# Altium footprint library QUTMS_JSTHeaderLibrary.PcbLib: 6 footprints
Each footprint in its own frame and in the unit in brackets; x right, y up, seen from the top. Pads: shape width x height; smd on the part's side, far side on the other; paste and mask are expansions set on the pad; w line width, h text height; cw(c..) or ccw(c..) is an arc to the next point about the centre after c.
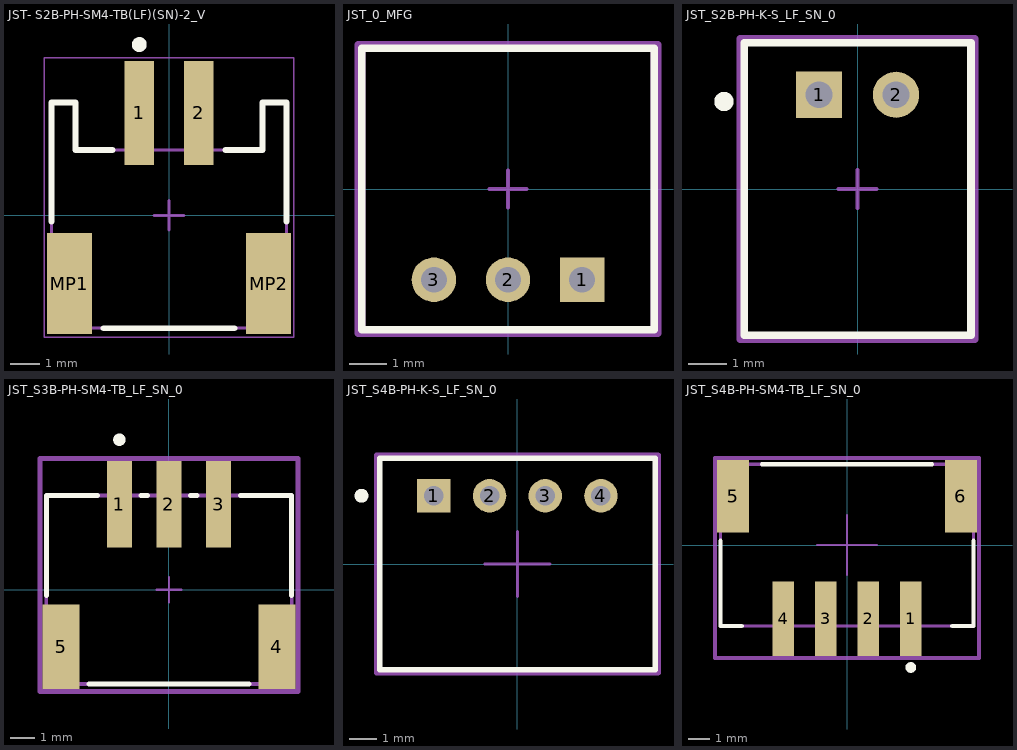
[diagram p0: the footprints below, top view; thin cyan lines are the x and y axes]

## JST- S2B-PH-SM4-TB(LF)(SN)-2_V [mm] "SMD, 2-Leads, Body 7.9x7.6mm, Pitch 2mm"
height 5.5
pads (4):
  rect 1x3.5 smd: 1(-1,3.45) 2(1,3.45)
  rect 1.5x3.4 smd: MP1(-3.35,-2.3) MP2(3.35,-2.3)
Top Overlay:
  circle w0.25: c-1,5.75 r0.125
  lines w0.2: -3.95,-0.2 -3.95,3.8 -3.15,3.8 -3.15,2.2 -1.9,2.2 ; -2.2,-3.8 2.2,-3.8 ; 1.9,2.2 3.15,2.2 3.15,3.8 3.95,3.8 3.95,-0.2
Mechanical 13:
  lines w0.1: -3.95,-3 -3.45,-3 -3.45,-3.8 3.45,-3.8 3.45,-3 3.95,-3 3.95,3.8 3.15,3.8 3.15,2.2 -3.15,2.2 -3.15,3.8 -3.95,3.8 -3.95,-3
Mechanical 15:
  lines w0.05: -4.2,-4.1 -4.2,5.3 4.2,5.3 4.2,-4.1 -4.2,-4.1
  lines w0.1: -0.5,0 0.5,0 ; 0,-0.5 0,0.5
3D body "S2B-PH-SM4-TB.STEP": height 5.6, standoff 0, extent -3.95,-3.8 3.95,4.8

## JST_0_MFG [mm]
pads (3):
  rect 1.2x1.2 hole 0.7 paste-1000 mask+0: 1(2,-2.45)
  round 1.2 hole 0.7 paste-1000 mask+0: 2(0,-2.45) 3(-2,-2.45)
Top Overlay:
  lines w0.2: -3.95,-3.8 -3.95,3.8 3.95,3.8 3.95,-3.8 -3.95,-3.8
Mechanical 10:
  lines w0.2: -4.05,-3.9 -4.05,3.9 4.05,3.9 4.05,-3.9 -4.05,-3.9
  text ".Designator" at 0,-0.001 h1
Mechanical 12:
  lines w0.2: -3.95,-3.8 -3.95,3.8 3.95,3.8 3.95,-3.8 -3.95,-3.8
Mechanical 15:
  lines w0.1: -0.5,0 0.5,0 ; 0,-0.5 0,0.5
  lines w0.2: -4.05,-3.9 -4.05,3.9 4.05,3.9 4.05,-3.9 -4.05,-3.9
3D body "Conn_JST_S3B-PH-K-S_LF_SN_eec.STEP": height 0.25, standoff 0, extent -4.05,-3.9 4.05,3.9

## JST_S2B-PH-K-S_LF_SN_0 [mm]
pads (2):
  rect 1.2x1.2 hole 0.7 paste-1000 mask+0: 1(-1,2.45)
  round 1.2 hole 0.7 paste-1000 mask+0: 2(1,2.45)
Top Overlay:
  circle w0.25: c-3.475,2.275 r0.125
  lines w0.2: -2.95,-3.8 -2.95,3.8 2.95,3.8 2.95,-3.8 -2.95,-3.8
Mechanical 10:
  lines w0.2: -3.05,-3.9 -3.05,3.9 3.05,3.9 3.05,-3.9 -3.05,-3.9
  text ".Designator" at 0,0 h1
Mechanical 12:
  lines w0.15: -2.95,-3.8 -2.95,3.8 2.95,3.8 2.95,-3.8 -2.95,-3.8
Mechanical 15:
  lines w0.1: -0.5,0 0.5,0 ; 0,-0.5 0,0.5
  lines w0.2: -3.05,-3.9 -3.05,3.9 3.05,3.9 3.05,-3.9 -3.05,-3.9
3D body "Conn_JST_S2B-PH-K-S_LF_SN_eec.STEP": height 0.25, standoff 0, extent -3.05,-3.9 3.05,3.9

## JST_S3B-PH-SM4-TB_LF_SN_0 [mm]
pads (5):
  rect 1x3.5 smd paste+0 mask+0: 1(-2,3.45) 2(0,3.45) 3(2,3.45)
  rect 1.5x3.4 smd paste+0 mask+0: 4(4.35,-2.3) 5(-4.35,-2.3)
Top Overlay:
  circle w0.25: c-2,6.05 r0.125
  lines w0.2: -4.95,-0.225 -4.95,3.8 -2.875,3.8 ; -3.225,-3.8 3.225,-3.8 ; -1.125,3.8 -0.875,3.8 ; 0.875,3.8 1.125,3.8 ; 2.875,3.8 4.95,3.8 4.95,-0.225
Mechanical 10:
  lines w0.2: -5.2,-4.1 -5.2,5.3 5.2,5.3 5.2,-4.1 -5.2,-4.1
  text ".Designator" at 0,0.6 h1
Mechanical 12:
  lines w0.15: -4.95,-3.8 -4.95,3.8 4.95,3.8 4.95,-3.8 -4.95,-3.8
Mechanical 15:
  lines w0.1: -0.5,0 0.5,0 ; 0,-0.5 0,0.5
  lines w0.2: -5.2,-4.1 -5.2,5.3 5.2,5.3 5.2,-4.1 -5.2,-4.1
3D body "Conn_JST_S3B-PH-SM4-TB_LF_SN_eec.STEP": height 0.25, standoff 0, extent -5.2,-4.1 5.2,5.3

## JST_S4B-PH-K-S_LF_SN_0 [mm]
pads (4):
  rect 1.2x1.2 hole 0.7 paste-1000 mask+0: 1(-3,2.45)
  round 1.2 hole 0.7 paste-1000 mask+0: 2(-1,2.45) 3(1,2.45) 4(3,2.45)
Top Overlay:
  circle w0.25: c-5.6,2.45 r0.125
  lines w0.2: -4.95,-3.8 -4.95,3.8 4.95,3.8 4.95,-3.8 -4.95,-3.8
Mechanical 10:
  lines w0.2: -5.05,-3.9 -5.05,3.9 5.05,3.9 5.05,-3.9 -5.05,-3.9
  text ".Designator" at 0,0 h1
Mechanical 12:
  lines w0.15: -4.95,-3.8 -4.95,3.8 4.95,3.8 4.95,-3.8 -4.95,-3.8
Mechanical 15:
  lines w0.1: -1.17,0 1.17,0 ; 0,-1.17 0,1.17
  lines w0.2: -5.05,-3.9 -5.05,3.9 5.05,3.9 5.05,-3.9 -5.05,-3.9
3D body "3dmodel.step": height 0.25, standoff 0, extent -5.05,-3.9 5.05,3.9

## JST_S4B-PH-SM4-TB_LF_SN_0 [mm]
pads (6):
  rect 1x3.5 smd paste+0 mask+0: 1(3,-3.45) 2(1,-3.45) 3(-1,-3.45) 4(-3,-3.45)
  rect 1.5x3.4 smd paste+0 mask+0: 5(-5.35,2.3) 6(5.35,2.3)
Top Overlay:
  circle w0.25: c3,-5.75 r0.125
  lines w0.2: -5.95,0.2 -5.95,-3.8 -4.95,-3.8 ; -4,3.8 4,3.8 ; 4.95,-3.8 5.95,-3.8 5.95,0.2
Mechanical 10:
  lines w0.2: -6.2,-5.3 -6.2,4.1 6.2,4.1 6.2,-5.3 -6.2,-5.3
  text ".Designator" at 0,-0.6 h1
Mechanical 12:
  lines w0.15: -5.95,-3.8 -5.95,3.8 5.95,3.8 5.95,-3.8 -5.95,-3.8
Mechanical 15:
  lines w0.1: -1.41,0 1.41,0 ; 0,-1.41 0,1.41
  lines w0.2: -6.2,-5.3 -6.2,4.1 6.2,4.1 6.2,-5.3 -6.2,-5.3
3D body "Conn_JST_S4B-PH-SM4-TB_LF_SN_eec.STEP": height 0.25, standoff 0, extent -6.2,-5.3 6.2,4.1